# EAGLE library part CHRGBRDPT (library ForApos)
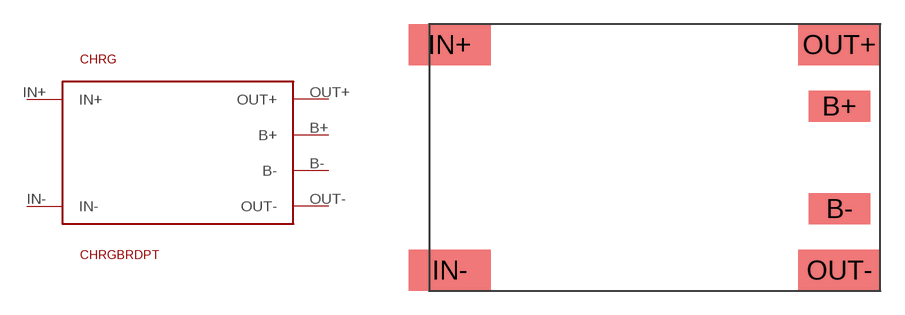
[diagram p2: symbol with the pads of CHRGPT; footprint CHRGPT]

Designator prefix CHRG

## CHRGBRDPT  [CHRGPT]
B+  B+
B-  B-
IN+  IN+
IN-  IN-
OUT+  OUT+
OUT-  OUT-

## Footprint CHRGPT (pad centres in mm)
smd 3.81 x 1.93: B+ 25.4,-6.35; B- 25.4,-12.7
smd 5.08 x 2.54: IN+ 1.27,-2.54; IN- 1.27,-16.51; OUT+ 25.4,-2.54; OUT- 25.4,-16.51